# EAGLE library part JOYSTICK (library LARS_409_POTENTIOMETR_ENCODER)
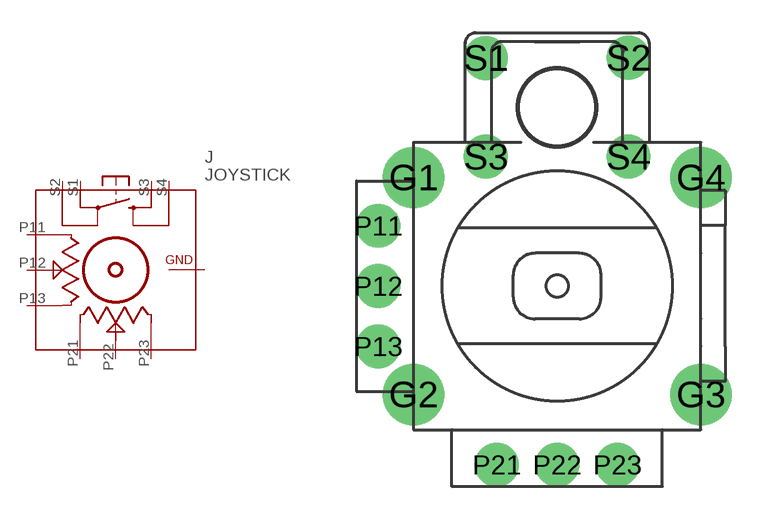
[diagram p1: symbol with the pads of JOYSTICK; footprint JOYSTICK]

Designator prefix J

## JOYSTICK  [JOYSTICK]
G1  GND
G2  GND
G3  GND
G4  GND
P11  P11  pas
P12  P12  pas
P13  P13  pas
P21  P21  pas
P22  P22  pas
P23  P23  pas
S1  1  pas
S2  2  pas
S3  3  pas
S4  4  pas

## Footprint JOYSTICK (pad centres in mm)
drill 1.5 pad 2.8: G1 -6.55,4.95; G2 -6.55,-4.95; G3 6.55,-4.95; G4 6.55,4.95
drill 1.3 pad 2: P11 -8.15,2.75; P12 -8.15,0; P13 -8.15,-2.75; P21 -2.75,-8.15; P22 0,-8.15; P23 2.75,-8.15; S1 -3.25,10.4; S2 3.25,10.41; S3 -3.25,5.9; S4 3.25,5.9